# Altium integrated library RC0805FR-071KL.IntLib: 1 symbol
Pins are listed as number, name and electrical type; pins without a type are passive.

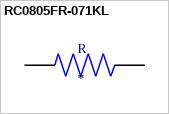
[diagram p0: symbol RC0805FR-071KL]

## RC0805FR-071KL
designator R
1 kOhms Â±1% 0.125W, 1/8W Chip Resistor 0805 _2012 Metric_ Moisture Resistant Thick Film; MP: RC0805FR-071KL; MF: Yageo; Price: None; Value: *; Package: 2012 Rohm Semiconductor; SnapEDA_Link: https://www.snapeda.com/parts/RC0805FR-071KL/Yageo/view-part/379333/?ref=snap; Availability: Unavailable
footprint RESC2012X60N
pins: 1, 2